# EAGLE library part ADP2302 (library IC)
Digi-Key Part Number ADP2302ARDZ-5.0-R7CT-ND Manufacturer Analog Devices Inc Manufacturer Part Number ADP2302ARDZ-5.0-R7 Description IC BUCK 5V 2A 8SOIC Type Step-Down (Buck) Output Type Fixed Number of Outputs 1 Voltage - Output 5V Voltage - Input 3 V ~ 20 V PWM Type Current Mode Frequency - Switching 700kHz Current - Output 2A
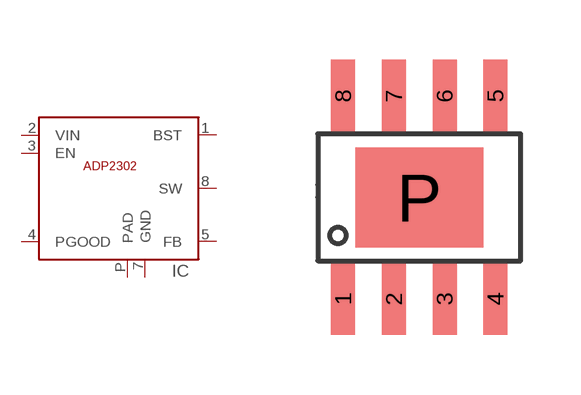
[diagram p189: symbol with the pads of SOIC8-EP; footprint SOIC8-EP]

Designator prefix IC

## ADP2302SOIC8_EP  [SOIC8-EP]
1  BST
2  VIN
3  EN
4  PGOOD
5  FB
7  GND
8  SW
P  PAD

## Footprint SOIC8-EP (pad centres in mm)
SOIC8-EP (pad) package (ON semi)
smd 0.6 x 1.8: 1 -1.905,-2.54; 2 -0.635,-2.54; 3 0.635,-2.54; 4 1.905,-2.54; 5 1.905,2.54; 6 0.635,2.54; 7 -0.635,2.54; 8 -1.905,2.54
smd 3.2 x 2.5: P 0,0